# EAGLE library part 3793 (library L&R OSMC)
3M Rectangular 10 Pin Header
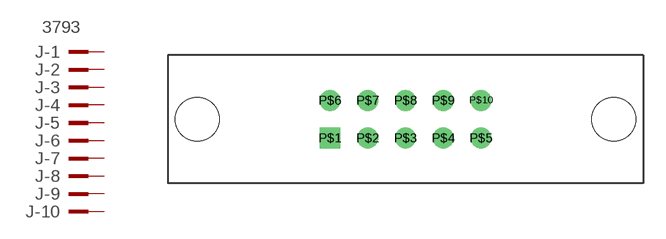
[diagram p0: symbol with the pads of 3M/3793-10; footprint 3M/3793-10]

Designator prefix J; gates -2=PIN -3=PIN -4=PIN -5=PIN -6=PIN -7=PIN -8=PIN -9=PIN -10=PIN -1=PINV

## 3793 (DIGIKEY: MHS10K-ND; MF: 3M; MPN: 3793-6002)  [3M/3793-10]
P$1  -1:KL  pas
P$2  -2:KL  pas
P$3  -3:KL  pas
P$4  -4:KL  pas
P$5  -5:KL  pas
P$6  -6:KL  pas
P$7  -7:KL  pas
P$8  -8:KL  pas
P$9  -9:KL  pas
P$10  -10:KL  pas

## Footprint 3M/3793-10 (pad centres in mm)
3M 3000 Series Four-Wall Headerr Straight 10-pin Source: 3M
drill 0.9 square: P$1 -5.08,-1.27
drill 0.9: P$2 -2.54,-1.27; P$3 0,-1.27; P$4 2.54,-1.27; P$5 5.08,-1.27; P$6 -5.08,1.27; P$7 -2.54,1.27; P$8 0,1.27; P$9 2.54,1.27; P$10 5.08,1.27
hole 2.946 at 14.021,0
hole 2.946 at -14.021,0